# EAGLE library part LCD_1.8 (library parts)
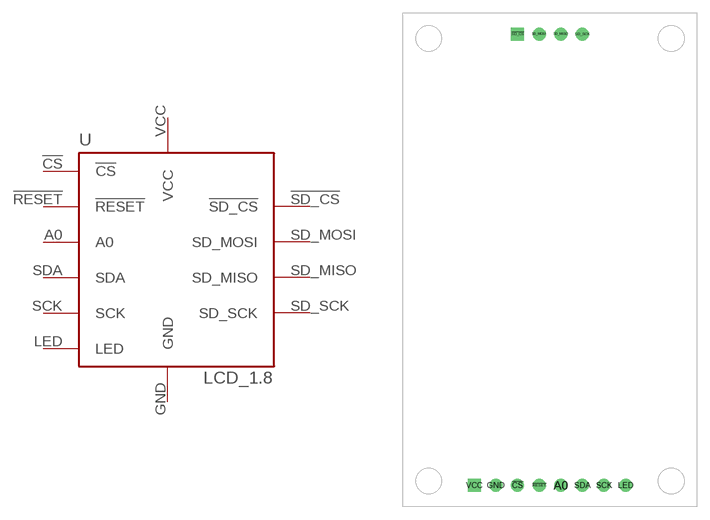
[diagram p5: symbol with the pads of LCD_1.8; footprint LCD_1.8]

Designator prefix U

## LCD_1.8  [LCD_1.8]
!CS  !CS
!RESET  !RESET
!SD_CS  !SD_CS
A0  A0
GND  GND  pwr
LED  LED
SCK  SCK
SD_MISO  SD_MISO
SD_MOSI  SD_MOSI
SD_SCK  SD_SCK
SDA  SDA
VCC  VCC  pwr

## Footprint LCD_1.8 (pad centres in mm)
drill 1.016: !CS -3.81,2.5; !RESET -1.27,2.5; A0 1.27,2.5; GND -6.35,2.5; LED 8.89,2.5; SCK 6.35,2.5; SD_MISO 1.27,55.5; SD_MOSI -1.27,55.5; SD_SCK 3.81,55.5; SDA 3.81,2.5
drill 1.016 square: !SD_CS -3.81,55.5; VCC -8.89,2.5